# Altium footprint library conics_pcb_alt.PcbLib: 49 footprints (part 2 of 4)
Each footprint in its own frame and in the unit in brackets; x right, y up, seen from the top. Pads: shape width x height; smd on the part's side, far side on the other; paste and mask are expansions set on the pad; w line width, h text height; cw(c..) or ccw(c..) is an arc to the next point about the centre after c.
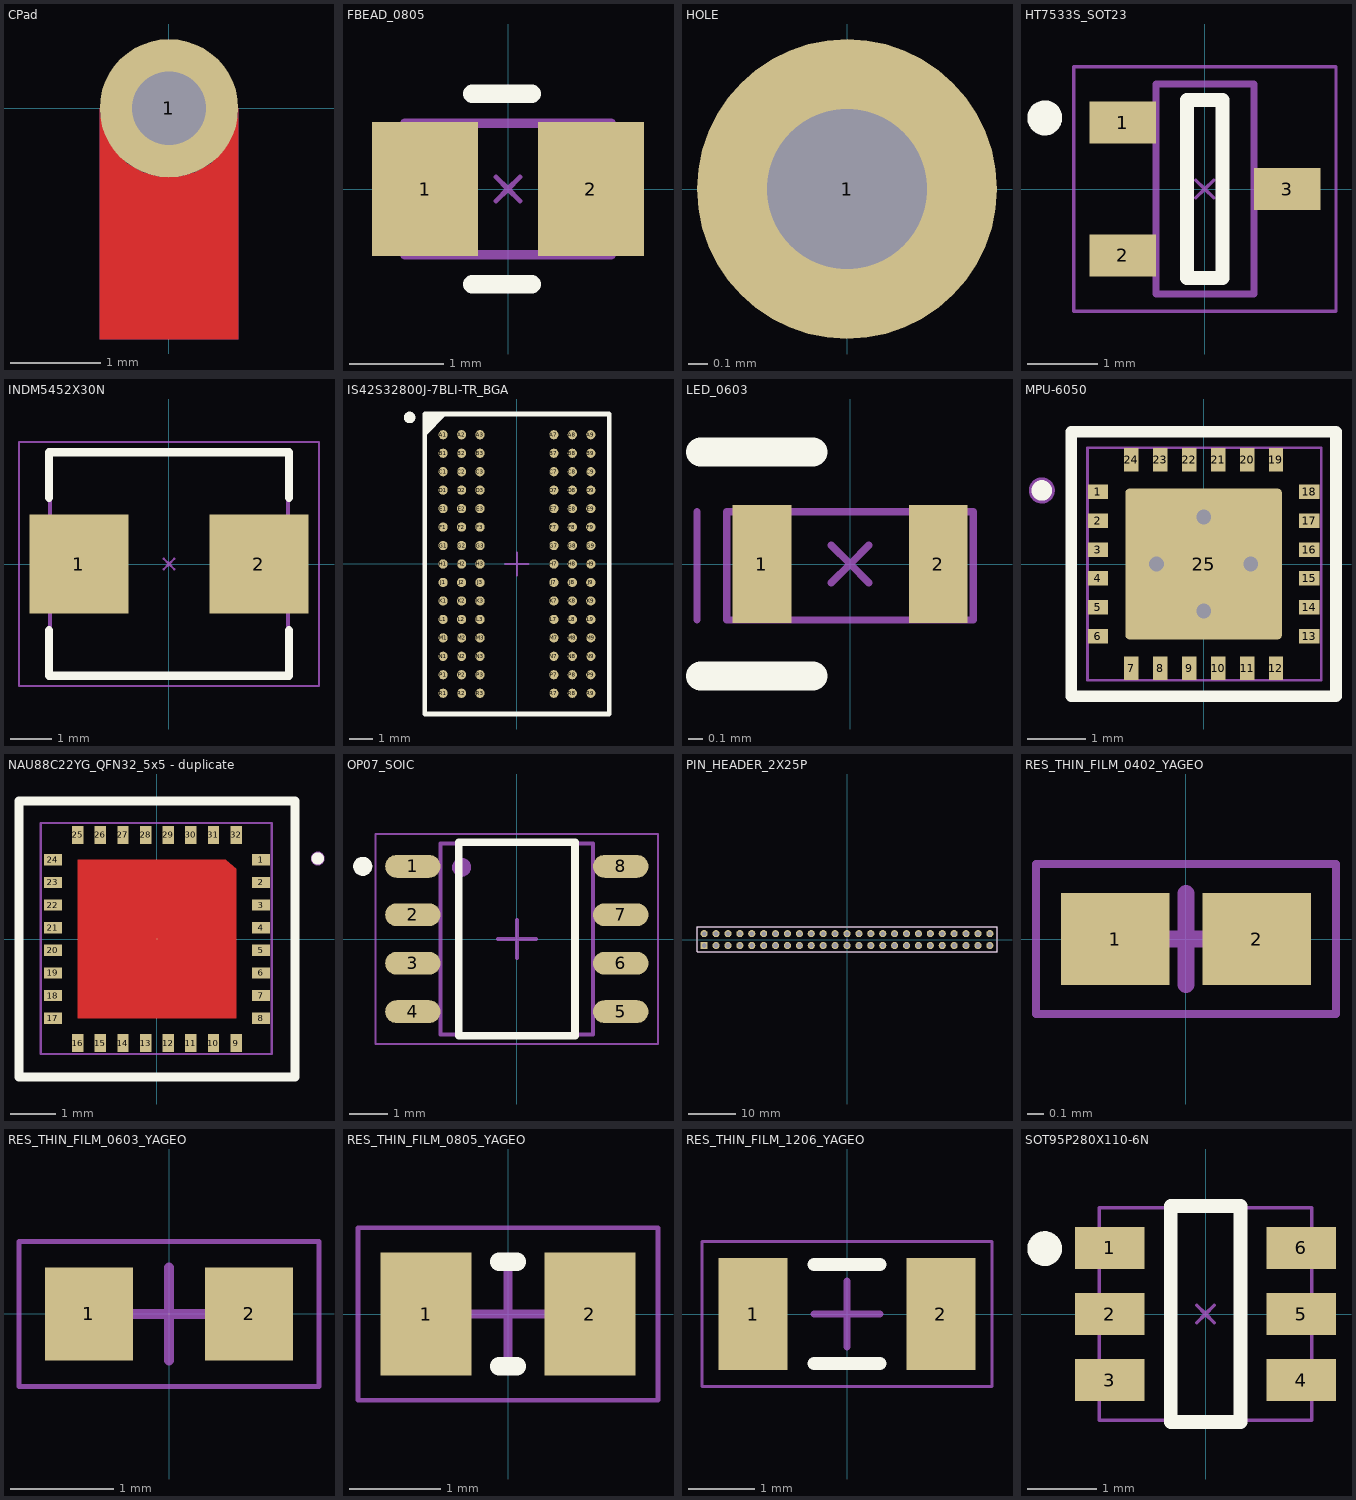
[diagram p1: the footprints below, top view; thin cyan lines are the x and y axes]

## CPad [mil]
pads (1):
  round 60 hole 32: 1(0,0)
Top Layer:
  region: -30,-100 30,-100 30,0 29.74,-3.92 27.72,-11.48 23.8,-18.26 18.26,-23.8 11.48,-27.72 3.92,-29.74 -3.92,-29.74 -11.48,-27.72 -18.26,-23.8 -23.8,-18.26 -27.72,-11.48 -29.74,-3.92 -30,0
Bottom Layer:
  region: -30,-100 30,-100 30,0 29.74,-3.92 27.72,-11.48 23.8,-18.26 18.26,-23.8 11.48,-27.72 3.92,-29.74 -3.92,-29.74 -11.48,-27.72 -18.26,-23.8 -23.8,-18.26 -27.72,-11.48 -29.74,-3.92 -30,0
Top Solder:
  region: -30,-100 30,-100 30,0 29.74,-3.92 27.72,-11.48 23.8,-18.26 18.26,-23.8 11.48,-27.72 3.92,-29.74 -3.92,-29.74 -11.48,-27.72 -18.26,-23.8 -23.8,-18.26 -27.72,-11.48 -29.74,-3.92 -30,0
Bottom Solder:
  region: -30,-100 30,-100 30,0 29.74,-3.92 27.72,-11.48 23.8,-18.26 18.26,-23.8 11.48,-27.72 3.92,-29.74 -3.92,-29.74 -11.48,-27.72 -18.26,-23.8 -23.8,-18.26 -27.72,-11.48 -29.74,-3.92 -30,0

## FBEAD_0805 [mm]
height 0.55
pads (2):
  rect 1.13x1.43 smd: 1(-0.885,0) 2(0.885,0)
Top Overlay:
  lines w0.2: -0.381,-1.016 0.254,-1.016 ; -0.381,1.016 0.254,1.016
Mechanical 13:
  lines w0.1: -1.1,-0.7 -1.1,0.7 1.1,0.7 1.1,-0.7 -1.1,-0.7
Mechanical 15:
  lines w0.05: -1.1,-0.686 1.1,-0.686 1.1,0.711 -1.1,0.711 -1.1,-0.686
  lines w0.051: -0.127,-0.127 0,0 ; -0.127,0.127 0,0 ; 0.127,-0.127 0,0 ; 0.127,0.127 0,0
  text "'.Designator'" at -0.973,-0.305 h0.76
3D body "FBEAD_0805.step": height 0.55, standoff 0, extent -1.1,-0.7 1.1,0.7

## HOLE [mil]
pads (1):
  round 60 hole 32: 1(0,0)

## HT7533S_SOT23 [mm] "SOT23, 3-Leads, Body 2.90x2.40mm, Pitch 0.95mm, IPC Medium Density"
height 1.1
pads (3):
  rect 0.95x0.6 smd: 1(-1.175,0.95) 2(-1.175,-0.95) 3(1.175,0)
Top Overlay:
  circle w0.25: c-2.286,1.016 r0.125
  lines w0.2: -0.254,-1.27 0.254,-1.27 0.254,1.27 -0.254,1.27 -0.254,-1.27
Mechanical 13:
  lines w0.1: -0.7,-1.5 -0.7,1.5 0.7,1.5 0.7,-1.5 -0.7,-1.5
Mechanical 15:
  circle w0.127: c-2.21,0.991 r0.057
  lines w0.05: -1.875,-1.75 -1.875,1.75 1.875,1.75 1.875,-1.75 -1.875,-1.75
  lines w0.051: -0.127,-0.127 0,0 ; -0.127,0.127 0,0 ; 0.127,-0.127 0,0 ; 0.127,0.127 0,0
  text "'.Designator'" at -1.753,-0.203 h0.76
3D body "HT7533S_SOT23.step": height 1.1, standoff 0, extent -1.25,-1.5 1.25,1.5

## INDM5452X30N [mm] "Molded Inductor, 2-Leads, Body 5.40x5.20mm, IPC Medium Density"
height 3
pads (2):
  rect 2.4x2.4 smd: 1(-2.175,0) 2(2.175,0)
Top Overlay:
  lines w0.2: -2.9,-1.6 -2.9,-2.7 2.9,-2.7 2.9,-1.6 ; -2.9,1.6 -2.9,2.7 2.9,2.7 2.9,1.6
Mechanical 13:
  lines w0.1: -2.875,-2.7 2.875,-2.7 2.875,2.7 -2.875,2.7 -2.875,-2.7
Mechanical 15:
  lines w0.05: -3.625,-2.95 3.625,-2.95 3.625,2.95 -3.625,2.95 -3.625,-2.95
  lines w0.051: -0.127,-0.127 0,0 ; -0.127,0.127 0,0 ; 0.127,-0.127 0,0 ; 0.127,0.127 0,0
  text "'.Designator'" at -3.378,-0.254 h0.76
3D body "L_SMD5.4x5.2mm.STEP": height 1.95, standoff -0.1, extent -3.07,-2.6 3.07,2.6

## IS42S32800J-7BLI-TR_BGA [mm]
height 1.2
pads (90):
  round 0.4 smd: A1(-3.2,5.6) A2(-2.4,5.6) A3(-1.6,5.6) A7(1.6,5.6) A8(2.4,5.6) A9(3.2,5.6) B1(-3.2,4.8) B2(-2.4,4.8) B3(-1.6,4.8) B7(1.6,4.8) B8(2.4,4.8) B9(3.2,4.8) C1(-3.2,4) C2(-2.4,4) C3(-1.6,4) C7(1.6,4) C8(2.4,4) C9(3.2,4) D1(-3.2,3.2) D2(-2.4,3.2) D3(-1.6,3.2) D7(1.6,3.2) D8(2.4,3.2) D9(3.2,3.2) E1(-3.2,2.4) E2(-2.4,2.4) E3(-1.6,2.4) E7(1.6,2.4) E8(2.4,2.4) E9(3.2,2.4) F1(-3.2,1.6) F2(-2.4,1.6) F3(-1.6,1.6) F7(1.6,1.6) F8(2.4,1.6) F9(3.2,1.6) G1(-3.2,0.8) G2(-2.4,0.8) G3(-1.6,0.8) G7(1.6,0.8) G8(2.4,0.8) G9(3.2,0.8) H1(-3.2,0) H2(-2.4,0) H3(-1.6,0) H7(1.6,0) H8(2.4,0) H9(3.2,0) J1(-3.2,-0.8) J2(-2.4,-0.8) J3(-1.6,-0.8) J7(1.6,-0.8) J8(2.4,-0.8) J9(3.2,-0.8) K1(-3.2,-1.6) K2(-2.4,-1.6) K3(-1.6,-1.6) K7(1.6,-1.6) K8(2.4,-1.6) K9(3.2,-1.6) L1(-3.2,-2.4) L2(-2.4,-2.4) L3(-1.6,-2.4) L7(1.6,-2.4) L8(2.4,-2.4) L9(3.2,-2.4) M1(-3.2,-3.2) M2(-2.4,-3.2) M3(-1.6,-3.2) M7(1.6,-3.2) M8(2.4,-3.2) M9(3.2,-3.2) N1(-3.2,-4) N2(-2.4,-4) N3(-1.6,-4) N7(1.6,-4) N8(2.4,-4) N9(3.2,-4) P1(-3.2,-4.8) P2(-2.4,-4.8) P3(-1.6,-4.8) P7(1.6,-4.8) P8(2.4,-4.8) P9(3.2,-4.8) R1(-3.2,-5.6) R2(-2.4,-5.6) R3(-1.6,-5.6) R7(1.6,-5.6) R8(2.4,-5.6) R9(3.2,-5.6)
Top Overlay:
  circle w0.25: c-4.65,6.35 r0.125
  region: -3.149,6.5 -4,5.649 -4,6.5
  lines w0.2: -4,5.649 -3.149,6.5 ; -4,-6.5 4,-6.5 4,6.5 -4,6.5 -4,-6.5
Mechanical 15:
  lines w0.1: -0.5,0 0.5,0 ; 0,-0.5 0,0.5 ; -4,-6.5 4,-6.5 4,6.5 -4,6.5 -4,-6.5
3D body "IS42S32800J-7BLI-TR_BGA.step": height 1.2, standoff 0, extent -4,-6.5 4,6.5

## LED_0603 [mm]
pads (2):
  rect 0.4x0.8 smd: 1(-0.6,0) 2(0.6,0)
Top Overlay:
  lines w0.2: -1.016,-0.762 -0.254,-0.762 ; -1.016,0.762 -0.254,0.762
Mechanical 15:
  lines w0.05: -0.838,-0.381 0.838,-0.381 0.838,0.356 -0.838,0.356 -0.838,-0.381
  lines w0.051: -1.041,-0.381 -1.041,0.356 ; -0.127,-0.127 0,0 ; -0.127,0.127 0,0 ; 0.127,-0.127 0,0 ; 0.127,0.127 0,0
  text "'.Designator'" at -0.711,0 h0.76
3D body "LED_0603.STEP": height 0.68, standoff 0, extent -0.825,-0.369 0.825,0.356

## MPU-6050 [mm]
pads (25):
  rect 0.35x0.25 smd: 1(-1.825,1.25) 2(-1.825,0.75) 3(-1.825,0.25) 4(-1.825,-0.25) 5(-1.825,-0.75) 6(-1.825,-1.25) 13(1.825,-1.25) 14(1.825,-0.75) 15(1.825,-0.25) 16(1.825,0.25) 17(1.825,0.75) 18(1.825,1.25)
  rect 0.25x0.4 smd: 7(-1.25,-1.8) 8(-0.75,-1.8) 9(-0.25,-1.8) 10(0.25,-1.8) 11(0.75,-1.8) 12(1.25,-1.8) 19(1.25,1.8) 20(0.75,1.8) 21(0.25,1.8) 22(-0.25,1.8) 23(-0.75,1.8) 24(-1.25,1.8)
  rrect5% 2.7x2.6 smd: 25(0,0)
via -0.813,0 diameter 0.66 hole 0.254
via 0.813,0 diameter 0.66 hole 0.254
via 0,-0.813 diameter 0.66 hole 0.254
via 0,0.813 diameter 0.66 hole 0.254
Top Overlay:
  circle w0.254: c-2.794,1.27 r0.05
  lines w0.2: -2.286,-2.286 2.286,-2.286 2.286,2.286 -2.286,2.286 -2.286,-2.286
Mechanical 15:
  circle w0.25: c-2.794,1.27 r0.1
  lines w0.05: -2.007,-2.007 2.032,-2.007 2.032,2.007 -2.007,2.007 -2.007,-1.981 -2.007,-2.007
  lines w0.051: -0.127,-0.127 0,0 ; -0.127,0.127 0,0 ; 0.127,-0.127 0,0 ; 0.127,0.127 0,0
  text "'.Designator'" at -1.854,-0.076 h0.76
3D body "MPU-6050.STEP": height 0.88, standoff -0.02, extent -2.02,-2.007 2.02,2.033

## NAU88C22YG_QFN32_5x5 - duplicate [mm]
pads (33):
  rect 0.4x0.25 smd: 1(2.3,1.75) 2(2.3,1.25) 3(2.3,0.75) 4(2.3,0.25) 5(2.3,-0.25) 6(2.3,-0.75) 7(2.3,-1.25) 8(2.3,-1.75) 17(-2.3,-1.75) 18(-2.3,-1.25) 19(-2.3,-0.75) 20(-2.3,-0.25) 21(-2.3,0.25) 22(-2.3,0.75) 23(-2.3,1.25) 24(-2.3,1.75)
  rect 0.25x0.4 smd: 9(1.75,-2.3) 10(1.25,-2.3) 11(0.75,-2.3) 12(0.25,-2.3) 13(-0.25,-2.3) 14(-0.75,-2.3) 15(-1.25,-2.3) 16(-1.75,-2.3) 25(-1.75,2.3) 26(-1.25,2.3) 27(-0.75,2.3) 28(-0.25,2.3) 29(0.25,2.3) 30(0.75,2.3) 31(1.25,2.3) 32(1.75,2.3)
  round 0.025 smd: 33(0,0)
Top Layer:
  region: 1.75,1.549 1.524,1.75 -1.75,1.75 -1.75,-1.75 1.75,-1.75
Top Overlay:
  circle w0.254: c3.556,1.778 r0.01
  lines w0.2: -3.048,-3.048 3.048,-3.048 3.048,3.048 -3.048,3.048 -3.048,-3.048
Mechanical 15:
  circle w0.254: c3.556,1.778 r0.025
  lines w0.051: -0.127,-0.127 0,0 ; -0.127,0.127 0,0 ; 0.127,-0.127 0,0 ; 0.127,0.127 0,0 ; -2.565,-2.54 2.54,-2.54 2.54,2.565 -2.565,2.565 -2.565,-2.54
  text "'.Designator'" at -2.311,-0.102 h0.76
3D body "NAU88C22YG.stp": height 0.8, standoff 0, extent -2.55,-2.55 2.55,2.55

## OP07_SOIC [mm]
height 1.75
pads (8):
  oval 1.45x0.6 smd: 1(-2.725,1.905) 2(-2.725,0.635) 3(-2.725,-0.635) 4(-2.725,-1.905) 5(2.725,-1.905) 6(2.725,-0.635) 7(2.725,0.635) 8(2.725,1.905)
Top Overlay:
  circle w0.25: c-4.039,1.905 r0.125
  lines w0.2: -1.524,-2.54 1.524,-2.54 1.524,2.54 -1.524,2.54 -1.524,-2.54
Mechanical 1:
  lines w0.05: -3.7,-2.75 -3.7,2.75 3.7,2.75 3.7,-2.75 -3.7,-2.75
  lines w0.1: -0.5,0 0.5,0 ; 0,-0.5 0,0.5
Mechanical 15:
  circle w0.25: c-1.448,1.88 r0.125
  lines w0.1: -2,-2.5 -2,2.5 2,2.5 2,-2.5 -2,-2.5
3D body "OP07_SOIC.step": height 1.75, standoff 0, extent -3,-2.5 3,2.5

## PIN_HEADER_2X25P [mil]
pads (50):
  rect 60x60 hole 40.16: 1(-1200,-50)
  round 60 hole 40.16: 2(-1200,50) 3(-1100,-50) 4(-1100,50) 5(-1000,-50) 6(-1000,50) 7(-900,-50) 8(-900,50) 9(-800,-50) 10(-800,50) 11(-700,-50) 12(-700,50) 13(-600,-50) 14(-600,50) 15(-500,-50) 16(-500,50) 17(-400,-50) 18(-400,50) 19(-300,-50) 20(-300,50) 21(-200,-50) 22(-200,50) 23(-100,-50) 24(-100,50) 25(0,-50) 26(0,50) 27(100,-50) 28(100,50) 29(200,-50) 30(200,50) 31(300,-50) 32(300,50) 33(400,-50) 34(400,50) 35(500,-50) 36(500,50) 37(600,-50) 38(600,50) 39(700,-50) 40(700,50) 41(800,-50) 42(800,50) 43(900,-50) 44(900,50) 45(1000,-50) 46(1000,50) 47(1100,-50) 48(1100,50) 49(1200,-50) 50(1200,50)
Top Overlay:
  lines w7.87: -1260,-100 -1260,110 1260,110 1260,-100 -1260,-100
Mechanical 15:
  lines w1.97: -1260,-100 -1260,110 1260,110 1260,-100 -1260,-100
  lines w2: -5,-5 0,0 ; -5,5 0,0 ; 5,-5 0,0 ; 5,5 0,0
  text "'.Designator'" at -287,3 h30
3D body "PIN_HEADER_2X25.STEP": height 414.96, standoff -118.11, extent -1250.1,-95 1250.1,101.85

## RES_THIN_FILM_0402_YAGEO [mm]
height 0.35
pads (2):
  rect 0.65x0.55 smd: 1(-0.425,0) 2(0.425,0)
Mechanical 15:
  lines w0.05: -0.9,-0.45 -0.9,0.45 0.9,0.45 0.9,-0.45 -0.9,-0.45
  lines w0.1: -0.275,0 0.275,0 ; 0,-0.275 0,0.275
  text "'.Designator'" at -1.209,-0.271 h1.02
3D body "RC0402.stp": height 0.35, standoff 0, extent -0.5,-0.254 0.5,0.246

## RES_THIN_FILM_0603_YAGEO [mm]
height 0.55
pads (2):
  rect 0.85x0.9 smd: 1(-0.775,0) 2(0.775,0)
Mechanical 15:
  lines w0.05: -1.45,-0.7 -1.45,0.7 1.45,0.7 1.45,-0.7 -1.45,-0.7
  lines w0.1: -0.45,0 0.45,0 ; 0,-0.45 0,0.45
  text "'.Designator'" at -1.361,-0.55 h1.02
3D body "RC0603.stp": height 0.45, standoff 0, extent -0.813,-0.4 0.787,0.4

## RES_THIN_FILM_0805_YAGEO [mm]
height 0.6
pads (2):
  rect 1x1.35 smd: 1(-0.9,0) 2(0.9,0)
Top Overlay:
  lines w0.2: -0.1,-0.575 0.1,-0.575 ; -0.1,0.575 0.1,0.575
Mechanical 15:
  lines w0.05: -1.65,-0.95 -1.65,0.95 1.65,0.95 1.65,-0.95 -1.65,-0.95
  lines w0.1: -0.5,0 0.5,0 ; 0,-0.5 0,0.5
  text "'.Designator'" at -1.31,-0.525 h1.02
3D body "RC0805.stp": height 0.5, standoff 0, extent -1,-0.625 1,0.625

## RES_THIN_FILM_1206_YAGEO [mm]
height 0.65
pads (2):
  rect 1.05x1.7 smd: 1(-1.425,0) 2(1.425,0)
Top Overlay:
  lines w0.2: -0.5,-0.75 0.5,-0.75 ; -0.5,0.75 0.5,0.75
Mechanical 15:
  lines w0.05: -2.2,-1.1 2.2,-1.1 2.2,1.1 -2.2,1.1 -2.2,-1.1
  lines w0.1: -0.5,0 0.5,0 ; 0,-0.5 0,0.5
  text "'.Designator'" at -1.818,-0.449 h1.02
3D body "RC1206.stp": height 0.57, standoff 0.01, extent -1.55,-0.772 1.55,0.78

## SOT95P280X110-6N [mm] "SOT23, 6-Leads, Body 2.90x2.80mm, Pitch 0.95mm, IPC Medium Density"
height 1.1
pads (6):
  rect 1x0.6 smd: 1(-1.375,0.95) 2(-1.375,0) 3(-1.375,-0.95) 4(1.375,-0.95) 5(1.375,0) 6(1.375,0.95)
Top Overlay:
  circle w0.25: c-2.311,0.94 r0.125
  lines w0.2: -0.5,-1.55 0.5,-1.55 0.5,1.55 -0.5,1.55 -0.5,-1.55
Mechanical 15:
  circle w0.254: c-2.311,0.94 r0.025
  lines w0.05: -1.524,-1.524 -1.524,1.524 1.524,1.524 1.524,-1.524 -1.524,-1.524
  lines w0.051: -0.127,-0.127 0,0 ; -0.127,0.127 0,0 ; 0.127,-0.127 0,0 ; 0.127,0.127 0,0
  text "'.Designator'" at -1.397,-0.317 h0.76
3D body "SOT95P280X110-6N.step": height 1.1, standoff 0, extent -1.525,-1.525 1.525,1.525